# Altium schematic symbol library 2JS_7-R.SchLib: 1 symbol
Pins are listed as number, name and electrical type; pins without a type are passive.

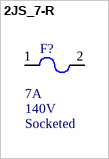
[diagram p0: symbol 2JS_7-R]

## 2JS_7-R
designator F?, comment Voltage Rating: 140V  Type: Socketed  Current Rating: 7A  (hidden comment: 2JS 7-R)
7A Cartridge Fuse Slow-Blow; Manufacturer: Bel Fuse; Fuse Clip PN: 01000020Z; PN: 2JS 7-R; Package: 5x15mm Cartridge; Footprint: 01000020Z_15mm; Supplier 1: Mouser; Supplier Part Number 1: 530-2JS7-R; ComponentLink1Description: Datasheet; ComponentLink1URL: https://belfuse.com/resources/datasheets/circuitprotection/ds-cp-2js-3js-series.pdf?src-supplier=Digi-Key; ComponentLink2Description: Fuse Clip Datasheet; ComponentLink2URL: https://www.mouser.ca/datasheet/2/240/Littelfuse_Fuse_Clip_100_445_030_520_Datasheet.pdf-370244.pdf
footprint 01000020Z_15mm
pins: 1, 2 4